# EAGLE library part TSW-114-02-S-Q (library con-samtec)
THROUGH-HOLE .025" SQ POST HEADER Source: Samtec TSW.pdf
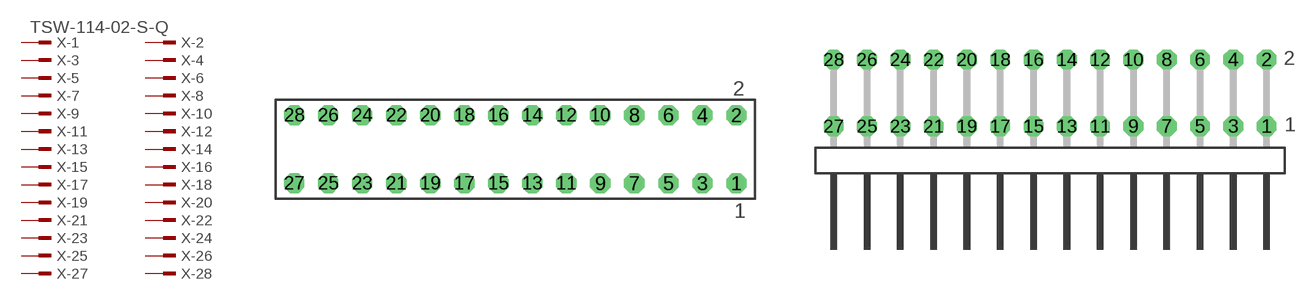
[diagram p276: symbol with the pads of TSW-114-02-S-Q; footprints TSW-114-02-S-Q, TSW-114-02-S-Q-RA]

Designator prefix X; gates -1=MPINV -2=MPIN -3=MPIN -4=MPIN -5=MPIN -6=MPIN -7=MPIN -8=MPIN -9=MPIN -10=MPIN -11=MPIN -12=MPIN -13=MPIN -14=MPIN -15=MPIN -16=MPIN -17=MPIN -18=MPIN -19=MPIN -20=MPIN -21=MPIN -22=MPIN -23=MPIN -24=MPIN -25=MPIN -26=MPIN -27=MPIN -28=MPIN

## TSW-114-02-S-Q (OC_FARNELL: unknown; OC_NEWARK: unknown)  [TSW-114-02-S-Q]
1  -1:1  pas
2  -2:1  pas
3  -3:1  pas
4  -4:1  pas
5  -5:1  pas
6  -6:1  pas
7  -7:1  pas
8  -8:1  pas
9  -9:1  pas
10  -10:1  pas
11  -11:1  pas
12  -12:1  pas
13  -13:1  pas
14  -14:1  pas
15  -15:1  pas
16  -16:1  pas
17  -17:1  pas
18  -18:1  pas
19  -19:1  pas
20  -20:1  pas
21  -21:1  pas
22  -22:1  pas
23  -23:1  pas
24  -24:1  pas
25  -25:1  pas
26  -26:1  pas
27  -27:1  pas
28  -28:1  pas

## TSW-114-02-S-Q-RA (OC_FARNELL: unknown; OC_NEWARK: unknown)  [TSW-114-02-S-Q-RA]
Pads as for TSW-114-02-S-Q

## Footprint TSW-114-02-S-Q (pad centres in mm)
THROUGH-HOLE .025" SQ POST HEADER Source: Samtec TSW.pdf
drill 1 pad 1.5 octagon: 1 16.51,-2.54; 2 16.51,2.54; 3 13.97,-2.54; 4 13.97,2.54; 5 11.43,-2.54; 6 11.43,2.54; 7 8.89,-2.54; 8 8.89,2.54; 9 6.35,-2.54; 10 6.35,2.54; 11 3.81,-2.54; 12 3.81,2.54; 13 1.27,-2.54; 14 1.27,2.54; 15 -1.27,-2.54; 16 -1.27,2.54; 17 -3.81,-2.54; 18 -3.81,2.54; 19 -6.35,-2.54; 20 -6.35,2.54; 21 -8.89,-2.54; 22 -8.89,2.54; 23 -11.43,-2.54; 24 -11.43,2.54; 25 -13.97,-2.54; 26 -13.97,2.54; 27 -16.51,-2.54; 28 -16.51,2.54

## Footprint TSW-114-02-S-Q-RA (pad centres in mm)
THROUGH-HOLE .025" SQ POST HEADER Source: Samtec TSW.pdf
drill 1 pad 1.5 octagon: 1 16.51,1.524; 2 16.51,6.604; 3 13.97,1.524; 4 13.97,6.604; 5 11.43,1.524; 6 11.43,6.604; 7 8.89,1.524; 8 8.89,6.604; 9 6.35,1.524; 10 6.35,6.604; 11 3.81,1.524; 12 3.81,6.604; 13 1.27,1.524; 14 1.27,6.604; 15 -1.27,1.524; 16 -1.27,6.604; 17 -3.81,1.524; 18 -3.81,6.604; 19 -6.35,1.524; 20 -6.35,6.604; 21 -8.89,1.524; 22 -8.89,6.604; 23 -11.43,1.524; 24 -11.43,6.604; 25 -13.97,1.524; 26 -13.97,6.604; 27 -16.51,1.524; 28 -16.51,6.604